# EAGLE library part WM8804 (library ICs)
High performance SPDIF transceiver.
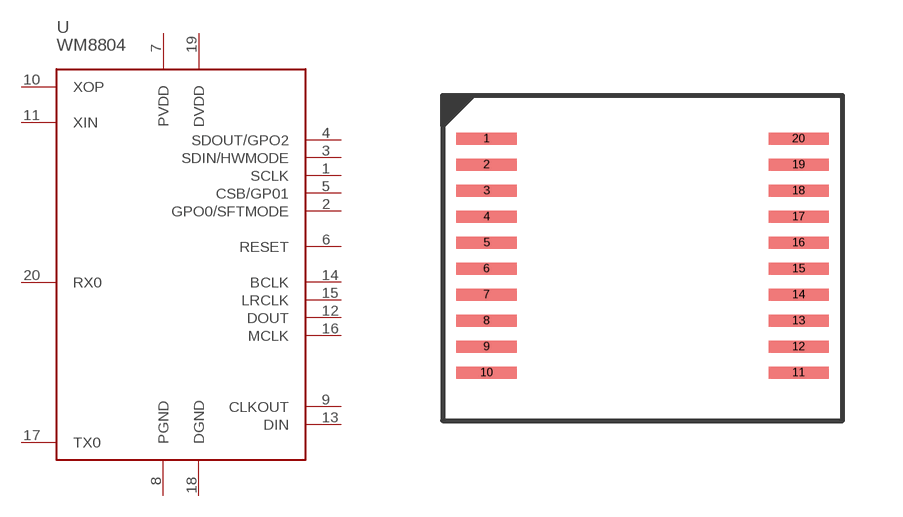
[diagram p11: symbol with the pads of SSOP20-5MM; footprint SSOP20-5MM]

Designator prefix U

## WM8804GEDS/RV (FARNELL: 1776282; VALUE: WM8804)  [SSOP20-5MM]
1  SCLK
2  GPO0/SFTMODE
3  SDIN/HWMODE
4  SDOUT/GPO2
5  CSB/GP01
6  RESET
7  PVDD
8  PGND
9  CLKOUT
10  XOP
11  XIN
12  DOUT
13  DIN
14  BCLK
15  LRCLK
16  MCLK
17  TX0
18  DGND
19  DVDD
20  RX0

## Footprint SSOP20-5MM (pad centres in mm)
smd 1.5 x 0.3: 1 -3.9,2.925; 2 -3.9,2.275; 3 -3.9,1.625; 4 -3.9,0.975; 5 -3.9,0.325; 6 -3.9,-0.325; 7 -3.9,-0.975; 8 -3.9,-1.625; 9 -3.9,-2.275; 10 -3.9,-2.925; 11 3.9,-2.925; 12 3.9,-2.275; 13 3.9,-1.625; 14 3.9,-0.975; 15 3.9,-0.325; 16 3.9,0.325; 17 3.9,0.975; 18 3.9,1.625; 19 3.9,2.275; 20 3.9,2.925